# Altium footprint library BxB-XH-AM.PcbLib: 10 footprints
Each footprint in its own frame and in the unit in brackets; x right, y up, seen from the top. Pads: shape width x height; smd on the part's side, far side on the other; paste and mask are expansions set on the pad; w line width, h text height; cw(c..) or ccw(c..) is an arc to the next point about the centre after c.
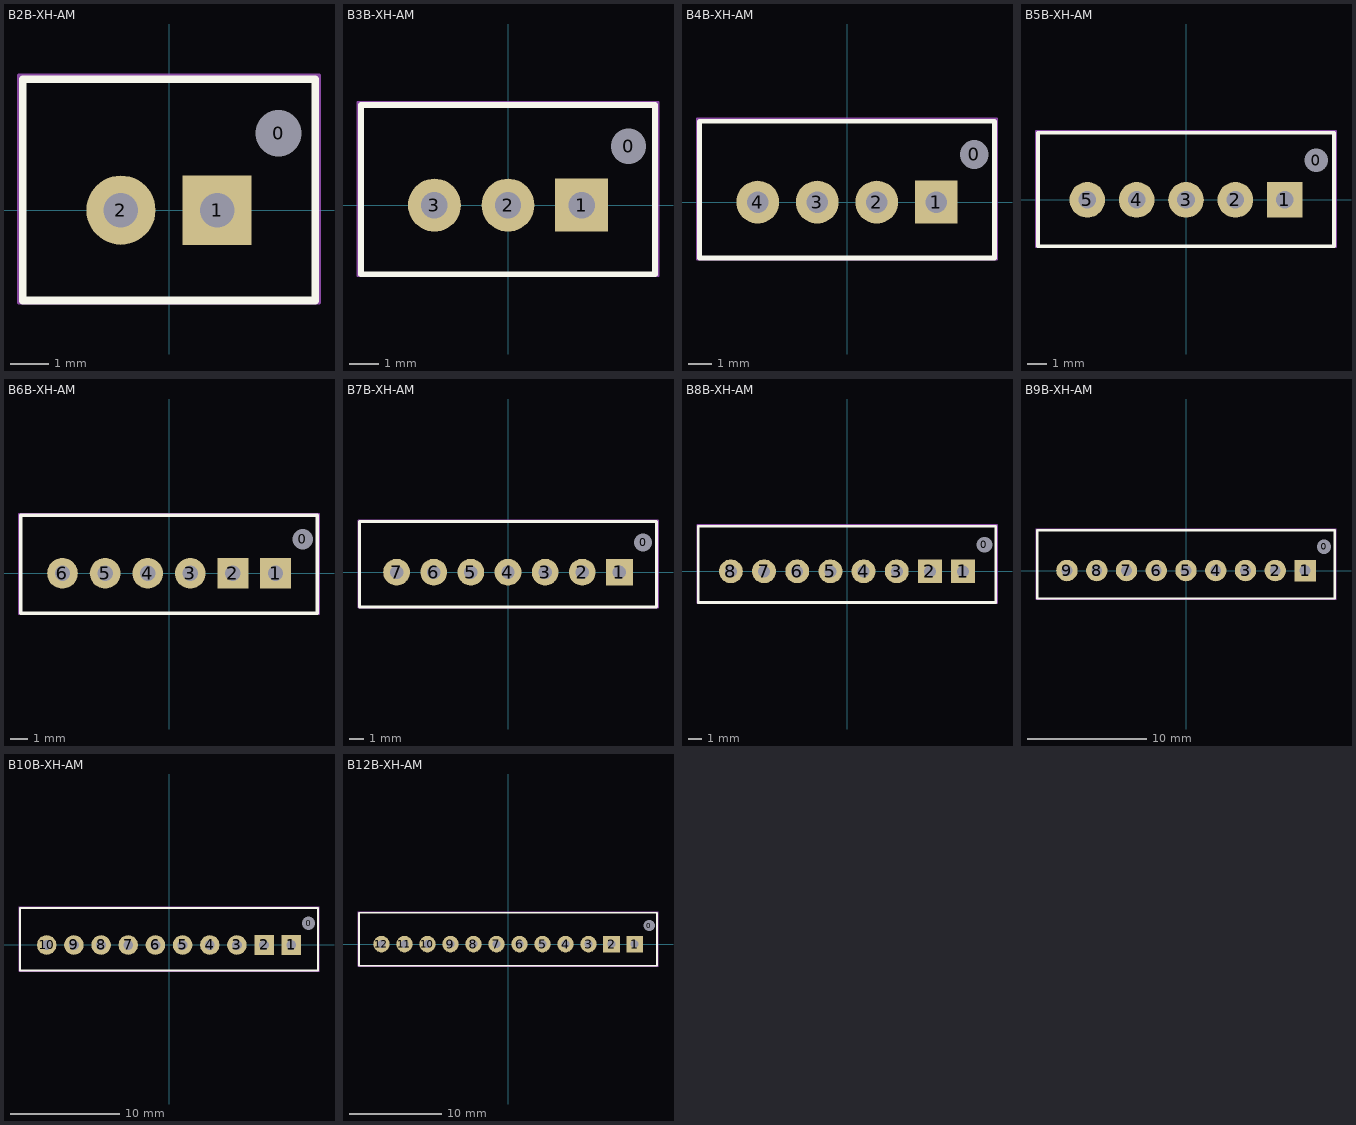
[diagram p0: the footprints below, top view; thin cyan lines are the x and y axes]

## B2B-XH-AM [mm]
pads (3):
  round 1 hole 1.2: 0(2.85,2)
  rect 1.8x1.8 hole 0.9: 1(1.25,0)
  round 1.8 hole 0.9: 2(-1.25,0)
Top Overlay:
  lines w0.2: -3.8,-2.35 -3.8,3.4 3.8,3.4 3.8,-2.35 -3.8,-2.35
Border:
  lines w0.1: -3.9,-2.4 -3.9,3.5 3.9,3.5 3.9,-2.4 -3.9,-2.4
3D body "User Library-CONN, HDR, 2_5mm X 2.STEP": height 7.11, standoff -3.81, extent -3.7,-2.3 3.692,3.441

## B3B-XH-AM [mm]
pads (4):
  round 1 hole 1.2: 0(4.1,2)
  rect 1.8x1.8 hole 0.9: 1(2.5,0)
  round 1.8 hole 0.9: 2(0,0) 3(-2.5,0)
Top Overlay:
  lines w0.2: -5,-2.35 5,-2.35 5,3.4 -5,3.4 -5,-2.35
Border:
  lines w0.1: -5.1,-2.4 5.1,-2.4 5.1,3.5 -5.1,3.5 -5.1,-2.4
3D body "User Library-jst-b3b-xh-a.STEP": height 7, standoff -3.4, extent -4.95,-2.375 4.95,3.375

## B4B-XH-AM [mm]
pads (5):
  round 1 hole 1.2: 0(5.35,2)
  rect 1.8x1.8 hole 0.9: 1(3.75,0)
  round 1.8 hole 0.9: 2(1.25,0) 3(-1.25,0) 4(-3.75,0)
Top Overlay:
  lines w0.2: -6.2,-2.35 -6.2,3.4 6.2,3.4 6.2,-2.35 -6.2,-2.35
Border:
  lines w0.1: -6.3,-2.4 -6.3,3.5 6.3,3.5 6.3,-2.4 -6.3,-2.4
3D body "User Library-jst-b4b-xh-a-1.STEP": height 7, standoff -3.4, extent -6.2,-2.375 6.2,3.375

## B5B-XH-AM [mm]
pads (6):
  round 1 hole 1.2: 0(6.6,2)
  rect 1.8x1.8 hole 0.9: 1(5,0)
  round 1.8 hole 0.9: 2(2.5,0) 3(0,0) 4(-2.5,0) 5(-5,0)
Top Overlay:
  lines w0.2: -7.5,-2.35 -7.5,3.4 7.5,3.4 7.5,-2.35 -7.5,-2.35
Border:
  lines w0.1: -7.6,-2.4 -7.6,3.5 7.6,3.5 7.6,-2.4 -7.6,-2.4
3D body "User Library-jst-b4b-xh-a.STEP": height 7, standoff -3.4, extent -7.45,-2.375 7.45,3.375

## B6B-XH-AM [mm]
pads (7):
  round 1 hole 1.2: 0(7.85,2)
  rect 1.8x1.8 hole 0.9: 1(6.25,0) 2(3.75,0)
  round 1.8 hole 0.9: 3(1.25,0) 4(-1.25,0) 5(-3.75,0) 6(-6.25,0)
Top Overlay:
  lines w0.2: -8.7,-2.35 8.7,-2.35 8.7,3.4 -8.7,3.4 -8.7,-2.35
Border:
  lines w0.1: -8.8,-2.4 8.8,-2.4 8.8,3.5 -8.8,3.5 -8.8,-2.4
3D body "User Library-jst-b6b-xh-a.STEP": height 7, standoff -3.4, extent -8.7,-2.375 8.7,3.375

## B7B-XH-AM [mm]
pads (8):
  round 1 hole 1.2: 0(9.1,2)
  rect 1.8x1.8 hole 0.9: 1(7.5,0)
  round 1.8 hole 0.9: 2(5,0) 3(2.5,0) 4(0,0) 5(-2.5,0) 6(-5,0) 7(-7.5,0)
Top Overlay:
  lines w0.2: -10,-2.35 10,-2.35 10,3.4 -10,3.4 -10,-2.35
Border:
  lines w0.1: -10.1,-2.4 10.1,-2.4 10.1,3.5 -10.1,3.5 -10.1,-2.4
3D body "User Library-B7B-XH-A.STEP": height 7, standoff -3.4, extent -9.95,-2.35 9.95,3.4

## B8B-XH-AM [mm]
pads (9):
  round 1 hole 1.2: 0(10.35,2)
  rect 1.8x1.8 hole 0.9: 1(8.75,0) 2(6.25,0)
  round 1.8 hole 0.9: 3(3.75,0) 4(1.25,0) 5(-1.25,0) 6(-3.75,0) 7(-6.25,0) 8(-8.75,0)
Top Overlay:
  lines w0.2: -11.2,-2.35 11.2,-2.35 11.2,3.4 -11.2,3.4 -11.2,-2.35
Border:
  lines w0.1: -11.3,-2.4 11.3,-2.4 11.3,3.5 -11.3,3.5 -11.3,-2.4
3D body "User Library-B8B-XH-A.STEP": height 7, standoff -3.4, extent -11.2,-2.35 11.2,3.4

## B9B-XH-AM [mm]
pads (10):
  round 1 hole 1.2: 0(11.6,2)
  rect 1.8x1.8 hole 0.9: 1(10,0)
  round 1.8 hole 0.9: 2(7.5,0) 3(5,0) 4(2.5,0) 5(0,0) 6(-2.5,0) 7(-5,0) 8(-7.5,0) 9(-10,0)
Top Overlay:
  lines w0.2: -12.5,-2.35 -12.5,3.4 12.5,3.4 12.5,-2.35 -12.5,-2.35
Border:
  lines w0.1: -12.6,-2.4 -12.6,3.5 12.6,3.5 12.6,-2.4 -12.6,-2.4
3D body "B09B-XH-AM.stp": height 7, standoff -3.4, extent -12.45,-2.35 12.45,3.4

## B10B-XH-AM [mm]
pads (11):
  round 1 hole 1.2: 0(12.85,2)
  rect 1.8x1.8 hole 0.9: 1(11.25,0) 2(8.75,0)
  round 1.8 hole 0.9: 3(6.25,0) 4(3.75,0) 5(1.25,0) 6(-1.25,0) 7(-3.75,0) 8(-6.25,0) 9(-8.75,0) 10(-11.25,0)
Top Overlay:
  lines w0.2: -13.7,-2.35 13.7,-2.35 13.7,3.4 -13.7,3.4 -13.7,-2.35
Border:
  lines w0.1: -13.8,-2.4 13.8,-2.4 13.8,3.5 -13.8,3.5 -13.8,-2.4
3D body "B10B-XH-AM.stp": height 7, standoff -3.4, extent -13.7,-2.35 13.7,3.4

## B12B-XH-AM [mm]
pads (13):
  round 1 hole 1.2: 0(15.35,2)
  rect 1.8x1.8 hole 0.9: 1(13.75,0) 2(11.25,0)
  round 1.8 hole 0.9: 3(8.75,0) 4(6.25,0) 5(3.75,0) 6(1.25,0) 7(-1.25,0) 8(-3.75,0) 9(-6.25,0) 10(-8.75,0) 11(-11.25,0) 12(-13.75,0)
Top Overlay:
  lines w0.2: -16.2,-2.35 16.2,-2.35 16.2,3.4 -16.2,3.4 -16.2,-2.35
Border:
  lines w0.1: -16.3,-2.4 16.3,-2.4 16.3,3.5 -16.3,3.5 -16.3,-2.4
3D body "B12B-XH-AM.stp": height 7, standoff -3.4, extent -16.2,-2.35 16.2,3.4